# Altium footprint library Capacitors.PcbLib: 88 footprints (part 6 of 6)
Each footprint in its own frame and in the unit in brackets; x right, y up, seen from the top. Pads: shape width x height; smd on the part's side, far side on the other; paste and mask are expansions set on the pad; w line width, h text height; cw(c..) or ccw(c..) is an arc to the next point about the centre after c.
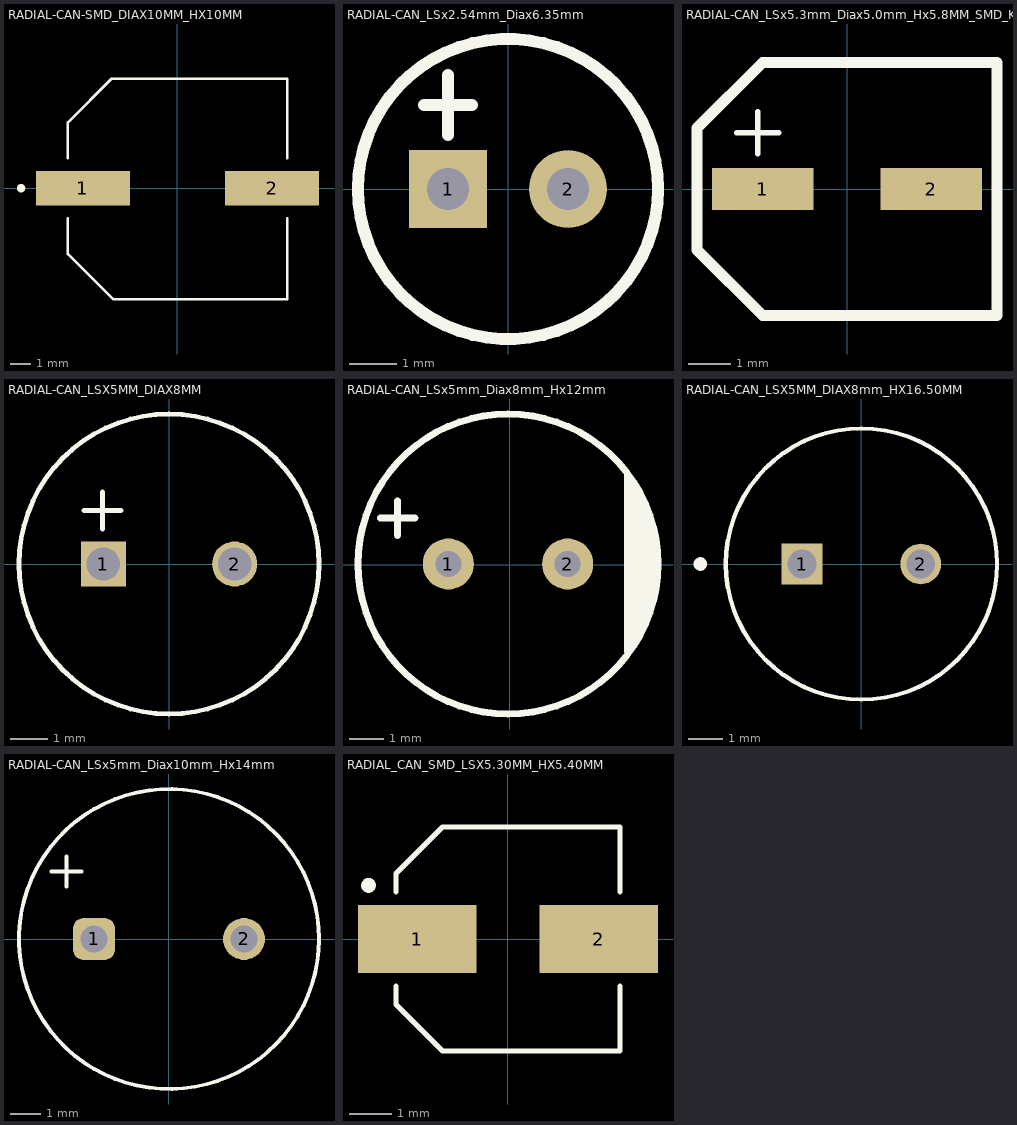
[diagram p5: the footprints below, top view; thin cyan lines are the x and y axes]

## RADIAL-CAN-SMD_DIAX10MM_HX10MM [mm] "/20221117/J-A.Sepulveda"
pads (2):
  rect 4.5x1.65 smd: 1(-4.529,0) 2(4.529,0)
Top Overlay:
  circle w0.2: c-7.493,0 r0.1
  lines w0.127: -5.25,-1.44 -5.25,-3.15 -3.075,-5.325 5.25,-5.325 5.25,-1.44 ; -5.25,1.44 -5.25,3.15 -3.15,5.25 5.25,5.25 5.25,1.44
3D body "A769MS107M1JLAS018.step": height 12.72, standoff 0.01, extent -5.612,-5.25 5.588,5.25

## RADIAL-CAN_LSx2.54mm_Diax6.35mm [mil] "/20210512/C-A.Serna.A"
pads (2):
  rect 65x65 / inner round 0 / far side rect 65x65 hole 35: 1(-50,0)
  round 65 / inner round 0 / far side round 65 hole 35: 2(50,0)
Top Overlay:
  lines w10: -70,70 -30,70 ; -50,45 -50,95 ; -125,0 ccw(c0,0) 125,0 ccw(c0,0) -125,0
3D body "User Library-Cap electro 6_3x11x2_5mm.step": height 444.42, standoff -128.01, extent -125.01,-125.01 125.02,125.02

## RADIAL-CAN_LSx5.3mm_Diax5.0mm_Hx5.8MM_SMD_KIR01 [mm] "/ 20190709 / C-A.Serna.A"
pads (2):
  rect 2.4x1 smd: 1(-2,0) 2(2,0)
Top Overlay:
  lines w0.127: -2.616,1.331 -1.616,1.331 ; -2.116,0.831 -2.116,1.831
  lines w0.254: -3.556,-1.444 -2,-3 3.556,-3 3.556,3 -2,3 -3.556,1.444 -3.556,-1.444
3D body "CAP_UCD_5X5P8_NCH.step": height 6.15, standoff 0, extent -2.946,-2.654 2.946,2.654

## RADIAL-CAN_LSX5MM_DIAX8MM [mm] "/20220517/F-A.Ospina"
pads (2):
  rect 1.2x1.2 hole 0.889: 1(-1.75,0)
  round 1.2 hole 0.889: 2(1.75,0)
Top Overlay:
  circle w0.127: c0,0 r4
  lines w0.127: -2.275,1.425 -1.275,1.425 ; -1.775,0.925 -1.775,1.925
3D body "step_temp.STEP": height 15, standoff -17, extent -4,-3.997 4,3.997

## RADIAL-CAN_LSx5mm_Diax8mm_Hx12mm [mm] "/20201209/J-E.Pachon"
pads (2):
  round 1.5 hole 0.762: 1(-1.804,0.027) 2(1.696,0.027)
Top Overlay:
  circle w0.2: c-0.054,0.027 r4.4
  lines w0.2: -3.802,1.373 -2.786,1.373 ; -3.294,0.865 -3.294,1.881 ; 3.451,-2.539 3.451,2.617 ; 3.629,-2.361 3.629,2.44 ; 3.782,-2.005 3.782,2.16 ; 3.934,-1.802 3.934,1.83 ; 4.112,-1.32 4.112,1.322 ; 4.264,-0.761 4.264,0.865
3D body: height 12.1, standoff 0.1, extent -4.054,-3.97 3.946,4.023

## RADIAL-CAN_LSX5MM_DIAX8mm_HX16.50MM [mm] "/20220623/F-A.Ospina"
pads (2):
  rect 1.2x1.2 hole 0.85: 1(-1.75,0)
  round 1.2 hole 0.85: 2(1.75,0)
Top Overlay:
  circle w0.2: c-4.75,0 r0.1
  circle w0.127: c0,0 r4
3D body "step_temp.STEP": height 15, standoff -17, extent -4,-3.997 4,3.998

## RADIAL-CAN_LSx5mm_Diax10mm_Hx14mm [mil] "/ 20190221 / C-A.Serna.A"
pads (2):
  rrect50% 55x55 hole 35: 1(-98,0)
  round 55 hole 35: 2(98.85,0)
Top Overlay:
  circle w5: c0.43,0 r196.85
  lines w5: -153.78,88.74 -114.41,88.74 ; -134.1,69.06 -134.1,108.43
Mechanical 1:
  circle w3.94: c0.43,0 r196.85
3D body: height 0, standoff -98.43, extent -109.71,-11.78 -86.18,11.8
3D body: height 0, standoff -59.06, extent 87.03,-11.79 110.56,11.79
3D body: height 551.18, standoff 0, extent -196.4,-196.83 197.26,196.83

## RADIAL_CAN_SMD_LSX5.30MM_HX5.40MM [mm] "20220922 / E,Naranjo"
pads (2):
  rect 2.8x1.6 smd: 1(-2.15,0) 2(2.15,0)
Top Overlay:
  circle w0.2: c-3.302,1.27 r0.076
  lines w0.127: -2.65,-1.12 -2.65,-1.55 -1.55,-2.65 2.65,-2.65 2.65,-1.12 ; -2.65,1.12 -2.65,1.55 -1.55,2.65 2.65,2.65 2.65,1.12
3D body "EEE1AA101WAR.STEP": height 5.81, standoff 0.01, extent -3.011,-2.65 2.989,2.65